# EAGLE library part AD5933YRSZ-REEL7 (library AD5933YRSZ-REEL7)
IC, Converter, Other/Special/Miscellaneous, SSOP, 16PIN Check availability <https://pricing.snapeda.com/parts/AD5933YRSZ/Analog%20Devices/view-part?ref=eda>
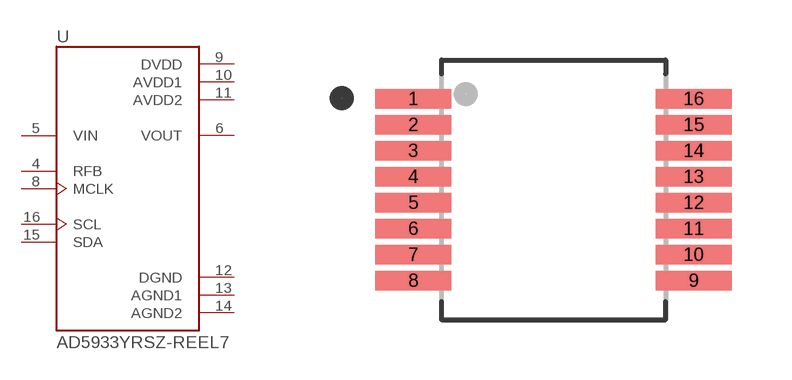
[diagram p0: symbol with the pads of SOP65P780X200-16N; footprint SOP65P780X200-16N]

Designator prefix U

## AD5933YRSZ-REEL7 (Availability: In Stock; Description: 1 MSPS, 12-Bit Impedance Converter, Network Analyzer; MF: Analog Devices; MP: AD5933YRSZ; Package: SSOP-16 Analog Devices; Price: None; Purchase-URL: https://pricing.snapeda.com/search?q=AD5933YRSZ&ref=eda)  [SOP65P780X200-16N]
4  RFB  in
5  VIN  in
6  VOUT  out
8  MCLK  in
9  DVDD  pwr
10  AVDD1  pwr
11  AVDD2  pwr
12  DGND  pwr
13  AGND1  pwr
14  AGND2  pwr
15  SDA
16  SCL  in

## Footprint SOP65P780X200-16N (pad centres in mm)
smd 1.9 x 0.48: 1 -3.505,2.275; 2 -3.505,1.625; 3 -3.505,0.975; 4 -3.505,0.325; 5 -3.505,-0.325; 6 -3.505,-0.975; 7 -3.505,-1.625; 8 -3.505,-2.275; 9 3.505,-2.275; 10 3.505,-1.625; 11 3.505,-0.975; 12 3.505,-0.325; 13 3.505,0.325; 14 3.505,0.975; 15 3.505,1.625; 16 3.505,2.275